# Altium footprint library TIP142.PcbLib: 1 footprints
Each footprint in its own frame and in the unit in brackets; x right, y up, seen from the top. Pads: shape width x height; smd on the part's side, far side on the other; paste and mask are expansions set on the pad; w line width, h text height; cw(c..) or ccw(c..) is an arc to the next point about the centre after c.
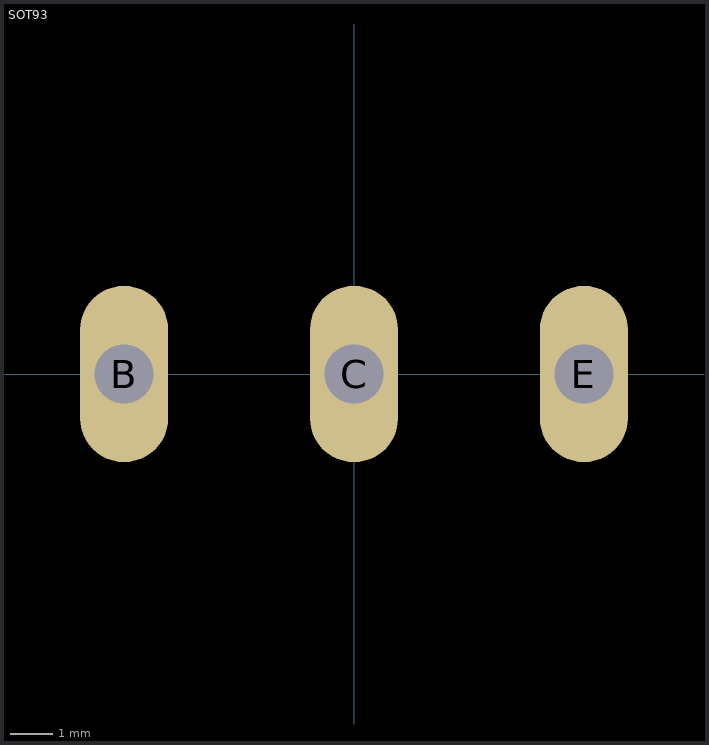
[diagram p0: the footprint, top view; thin cyan lines are the x and y axes]

## SOT93 [mil]
pads (3):
  oval 82.5x165 hole 55: B(-215,0) C(0,0) E(215,0)
3D body "step_temp.STEP": height 1010.24, standoff -648.82, extent -312.5,-90 312.5,106.85